# Altium footprint library Connector.PcbLib: 10 footprints
Each footprint in its own frame and in the unit in brackets; x right, y up, seen from the top. Pads: shape width x height; smd on the part's side, far side on the other; paste and mask are expansions set on the pad; w line width, h text height; cw(c..) or ccw(c..) is an arc to the next point about the centre after c.
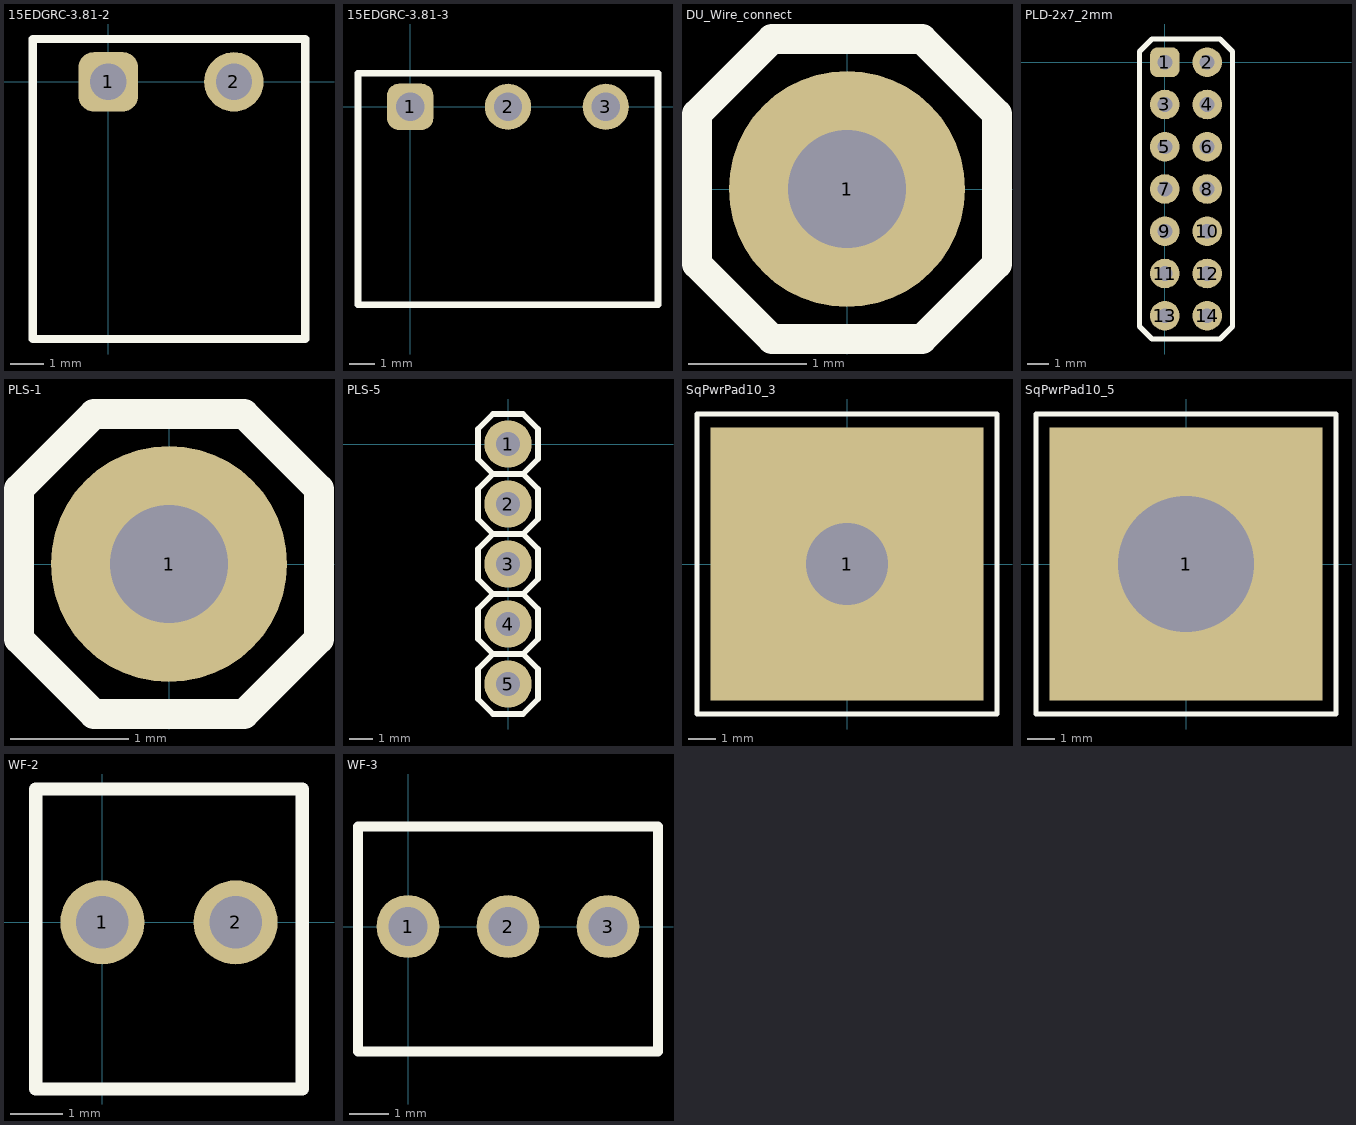
[diagram p0: the footprints below, top view; thin cyan lines are the x and y axes]

## 15EDGRC-3.81-2 [mm]
height 10
pads (2):
  rrect50% 1.8x1.8 hole 1.1: 1(0,0)
  round 1.8 hole 1.1: 2(3.81,0)
Top Overlay:
  lines w0.254: -2.286,-7.8 -2.286,1.3 5.969,1.3 5.969,-7.8 -2.286,-7.8
3D body "2pin.stp": height 7.4, standoff -3.2, extent -1.91,-8 5.71,1.2

## 15EDGRC-3.81-3 [mm]
height 10
pads (3):
  rrect50% 1.8x1.8 hole 1.1: 1(0,0)
  round 1.8 hole 1.1: 2(3.81,0) 3(7.62,0)
Top Overlay:
  lines w0.254: -2.032,-7.7 -2.032,1.3 9.652,1.3 9.652,-7.7 -2.032,-7.7
3D body "3pin.stp": height 7.4, standoff -3.2, extent -1.91,-8 9.52,1.2

## DU_Wire_connect [mm]
pads (1):
  round 2 hole 1: 1(0,0)
Top Overlay:
  lines w0.254: -1.27,-0.635 -0.635,-1.27 0.635,-1.27 1.27,-0.635 1.27,0.635 0.635,1.27 -0.635,1.27 -1.27,0.635 -1.27,0 -1.27,-0.635

## PLD-2x7_2mm [mm]
height 10
pads (14):
  rrect50% 1.4x1.4 hole 0.7: 1(0,0)
  round 1.4 hole 0.7: 2(2,0) 3(0,-2) 4(2,-2) 5(0,-4) 6(2,-4) 7(0,-6) 8(2,-6) 9(0,-8) 10(2,-8) 11(0,-10) 12(2,-10) 13(0,-12) 14(2,-12)
Top Overlay:
  lines w0.254: -1.2,-12.5 -1.2,0.5 -0.6,1.1 2.6,1.1 3.2,0.5 3.2,-12.5 2.6,-13.1 -0.6,-13.1 -1.2,-12.5
3D body "User Library-PLD2-2.step": height 5.9, standoff -2.1, extent -1.3,-1 3.3,1
3D body "User Library-PLD2-2.step": height 5.9, standoff -2.1, extent -1.3,-3 3.3,-1
3D body "User Library-PLD2-2.step": height 5.9, standoff -2.1, extent -1.3,-5 3.3,-3
3D body "User Library-PLD2-2.step": height 5.9, standoff -2.1, extent -1.3,-7 3.3,-5
3D body "User Library-PLD2-2.step": height 5.9, standoff -2.1, extent -1.3,-9 3.3,-7
3D body "User Library-PLD2-2.step": height 5.9, standoff -2.1, extent -1.3,-11 3.3,-9
3D body "User Library-PLD2-2.step": height 5.9, standoff -2.1, extent -1.3,-13 3.3,-11

## PLS-1 [mm]
height 10
pads (1):
  round 2 hole 1: 1(0,0)
Top Overlay:
  lines w0.254: -1.27,-0.635 -0.635,-1.27 0.635,-1.27 1.27,-0.635 1.27,0.635 0.635,1.27 -0.635,1.27 -1.27,0.635 -1.27,0 -1.27,-0.635
3D body "User Library-PLS-1.step": height 8.64, standoff -2.8, extent -1.27,-1.27 1.27,1.27

## PLS-5 [mm]
height 3
pads (5):
  round 2 hole 1: 1(0,0) 2(0,-2.54) 3(0,-5.08) 4(0,-7.62) 5(0,-10.16)
Top Overlay:
  lines w0.254: -0.635,-8.89 -1.27,-8.255 -1.27,-7.62 -1.27,-6.985 -0.635,-6.35 ; -0.635,-8.89 0.635,-8.89 ; -0.635,-8.89 -1.27,-9.525 -1.27,-10.16 -1.27,-10.795 -0.635,-11.43 0.635,-11.43 1.27,-10.795 1.27,-9.525 0.635,-8.89 ; -0.635,-6.35 -1.27,-5.715 -1.27,-5.08 -1.27,-4.445 -0.635,-3.81 ; -0.635,-6.35 0.635,-6.35 ; -0.635,-3.81 -1.27,-3.175 -1.27,-2.54 -1.27,-1.905 -0.635,-1.27 ; -0.635,-3.81 0.635,-3.81 ; -0.635,-1.27 -1.27,-0.635 -1.27,0 -1.27,0.635 -0.635,1.27 0.635,1.27 1.27,0.635 1.27,-0.635 0.635,-1.27 ; -0.635,-1.27 0.635,-1.27 ; 0.635,-8.89 1.27,-8.255 1.27,-6.985 0.635,-6.35 ; 0.635,-6.35 1.27,-5.715 1.27,-4.445 0.635,-3.81 ; 0.635,-3.81 1.27,-3.175 1.27,-1.905 0.635,-1.27
3D body "User Library-PLS-5.step": height 8.74, standoff -2.8, extent -1.27,-11.43 1.27,1.27

## SqPwrPad10_3 [mm] "Square Power Pad, 10mm, hole 3mm"
pads (1):
  rect 10x10 hole 3: 1(0,0)
Top Overlay:
  lines w0.2: -5.5,-5.5 5.5,-5.5 5.5,-2 5.5,5.5 -5.5,5.5 -5.5,-5.5
Mechanical 13:
  lines w0.1: -5.5,-5.5 -5.5,5.5 5.5,5.5 5.5,-5.5 -5.5,-5.5
Mechanical 15:
  lines w0.1: -5.5,-5.5 -5.5,5.5 5.5,5.5 5.5,-5.5 -5.5,-5.5

## SqPwrPad10_5 [mm] "Square Power Pad, 10mm, hole 5mm"
pads (1):
  rect 10x10 hole 5: 1(0,0)
Top Overlay:
  lines w0.2: -5.5,-5.5 5.5,-5.5 5.5,-2 5.5,5.5 -5.5,5.5 -5.5,-5.5
Mechanical 13:
  lines w0.1: -5.5,-5.5 -5.5,5.5 5.5,5.5 5.5,-5.5 -5.5,-5.5
Mechanical 15:
  lines w0.1: -5.5,-5.5 -5.5,5.5 5.5,5.5 5.5,-5.5 -5.5,-5.5

## WF-2 [mm]
height 10
pads (2):
  round 1.6 hole 1: 1(0,0) 2(2.54,0)
Top Overlay:
  lines w0.254: -1.27,-3.175 -1.27,2.54 3.81,2.54 3.81,-3.175 -1.27,-3.175
3D body "User Library-WF-2-1.STEP": height 12.12, standoff -2.28, extent -1.24,-3.21 3.76,2.59

## WF-3 [mm]
height 10
pads (3):
  round 1.6 hole 1: 1(0,0) 2(2.54,0) 3(5.08,0)
Top Overlay:
  lines w0.254: -1.27,-3.175 6.35,-3.175 6.35,2.54 -1.27,2.54 -1.27,-3.175
3D body "User Library-WF-3-1.STEP": height 12.12, standoff -2.28, extent -1.181,-3.192 6.319,2.608